# EAGLE library part MN3008 (library ic-bbd)
2048-Stage Lo Noise BBD
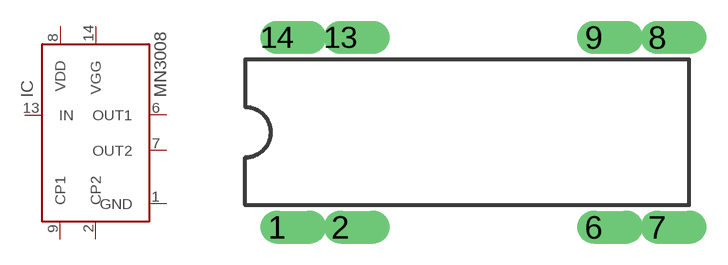
[diagram p5: symbol with the pads of DIL-14/8; footprint DIL-14/8]

Designator prefix IC

## MN3008  [DIL-14/8]
1  GND
2  CP2
6  OUT1
7  OUT2
8  VDD
9  CP1
13  IN
14  VGG

## Footprint DIL-14/8 (pad centres in mm)
Dual In Line Package
drill 0.813 offset: 1 -7.62,-3.81; 2 -5.08,-3.81; 6 5.08,-3.81; 7 7.62,-3.81; 8 7.62,3.81; 9 5.08,3.81; 13 -5.08,3.81; 14 -7.62,3.81